# Altium schematic symbol library BB-HEADER-P11-P20.SchLib: 1 symbol
Pins are listed as number, name and electrical type; pins without a type are passive.

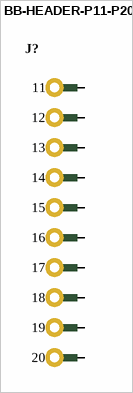
[diagram p0: symbol BB-HEADER-P11-P20]

## BB-HEADER-P11-P20
designator J?  (value not drawn)
BB Header, Vertical, Male, 0.1", 2.54mm, P11-P20
pins: 11, 12, 13, 14, 15, 16, 17, 18, 19, 20